# Altium schematic symbol library TS21-34-035-BK-160-SMT-TR.SchLib: 1 symbol
Pins are listed as number, name and electrical type; pins without a type are passive.

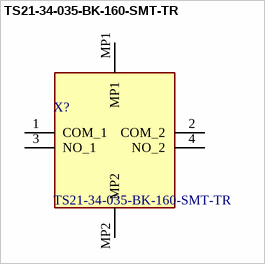
[diagram p0: symbol TS21-34-035-BK-160-SMT-TR]

## TS21-34-035-BK-160-SMT-TR
designator X?
3.4 x 3.4 mm, 0.35 mm Actuator Height, 160 gf, Surface Mount, SPST, Black Illuminated, Tactile Switch; Manufacturer_Name: CUI Devices; Geometry.Height: 1.7mm; Mouser Part Number: 179-134035BK160SMTTR; Mouser Price/Stock: https://www.mouser.co.uk/ProductDetail/CUI-Devices/TS21-34-035-BK-160-SMT-TR?qs=1Kr7Jg1SGW9zzGN58LP5Sg%3D%3D; Manufacturer_Part_Number: TS21-34-035-BK-160-SMT-TR; Datasheet Link: https://www.cuidevices.com/product/resource/ts21.pdf
footprint TS2134035BK160SMTTR
pins: 1 COM_1, 2 COM_2, 3 NO_1, 4 NO_2, MP1, MP2